# EAGLE library part SOT23-6 (library custom)
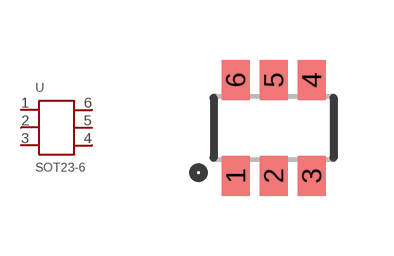
[diagram p11: symbol with the pads of SOT23-6; footprint SOT23-6]

Designator prefix -

## SOT23-6  [SOT23-6]
1  1
2  2
3  3
4  4
5  5
6  6

## Footprint SOT23-6 (pad centres in mm)
smd 0.7 x 1: 1 -0.95,-1.2; 2 0,-1.2; 3 0.95,-1.2; 4 0.95,1.2; 5 0,1.2; 6 -0.95,1.2